# Altium integrated library NSC MiscPower.IntLib: 1417 symbols (part 38 of 39)
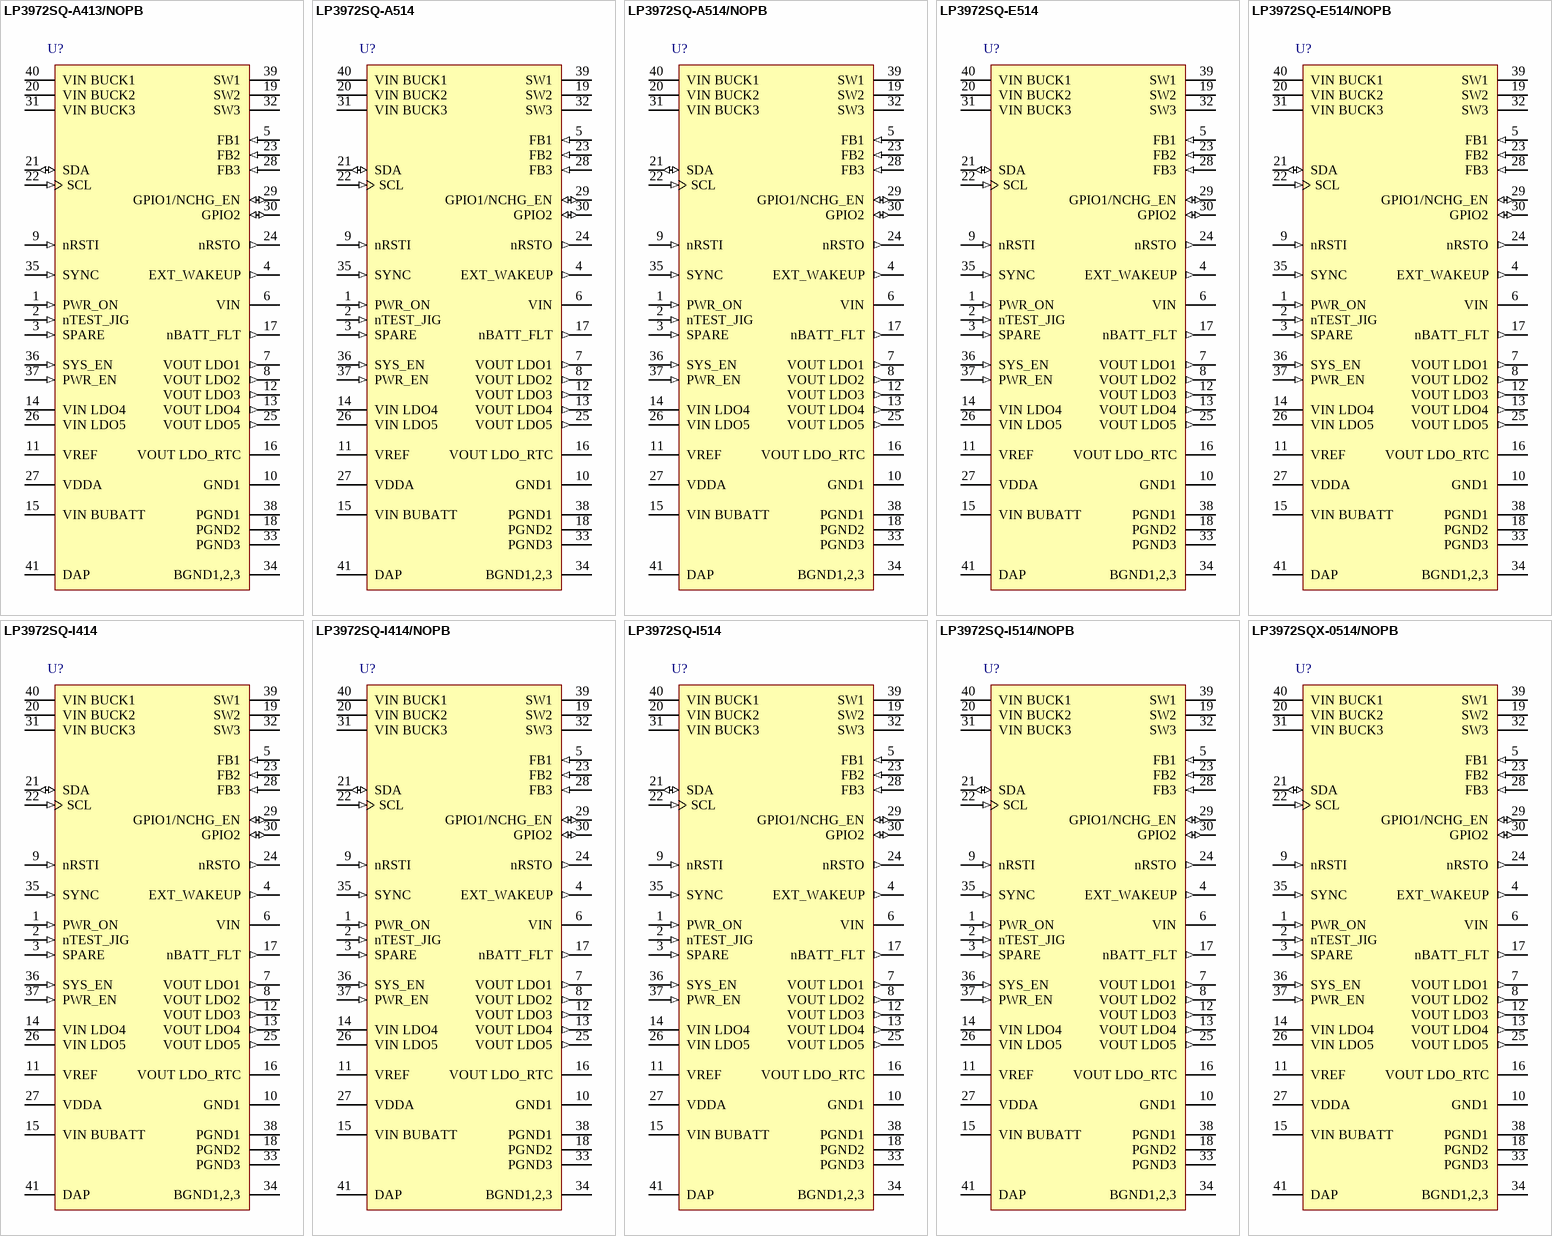
[diagram p88: symbols LP3972SQ-A413/NOPB to LP3972SQX-0514/NOPB]

## LP3972SQ-I414/NOPB
designator U?
Power Management Unit for Advanced Application Processors, 40-pin LLP, Pb-Free; PartNumber: LP3972SQ-I414/NOPB; Manufacturer: National Semiconductor; PackageTopMarking: NS*UZXYTT*72-I414; PowerWise: Y; CompType: MiscPower; Published: 1-Mar-2010; DatasheetVersion: Jun-2009; PackageVersion: revB, Jul-2004; PackageReference: SQF40A; Publisher: Altium Limited; PackageDescription: LLP, Quad, 5 x 5 x 0.8mm Body, 40 Lead, 0.4mm Pitch, 3.6 x 3.6mm Exposed Pad; Supplier 1: Digi-Key; Supplier Part Number 1: LP3972SQ-I414TR-ND; Supplier 2: Digi-Key; Supplier Part Number 2: LP3972SQ-I414CT-ND; Supplier 3: Digi-Key; Supplier Part Number 3: LP3972SQ-I414DKR-ND; RoHS: Y; PinCount: 40; ComponentLink1Description: LP3972 Datasheet; ComponentLink1URL: http://www.national.com/ds/LP/LP3972.pdf; ComponentLink2Description: LP3972 Web Page; ComponentLink2URL: http://www.national.com/pf/LP/LP3972.html; ComponentLink3Description: SQF40A Package Page; ComponentLink3URL: http://www.national.com/packaging/folders/sqf40a.html
footprint SQF40A (QFN, 40-Leads, Body 5x5 mm, Pitch 0.4mm, NSC Recommended)
pins: 1 PWR_ON (in), 2 nTEST_JIG (in), 3 SPARE (in), 4 EXT_WAKEUP (out), 5 FB1 (in), 6 VIN (power), 7 VOUT LDO1 (out), 8 VOUT LDO2 (out), 9 nRSTI (in), 10 GND1 (power), 11 VREF, 12 VOUT LDO3 (out), 13 VOUT LDO4 (out), 14 VIN LDO4 (power), 15 VIN BUBATT (power), 16 VOUT LDO_RTC (power), 17 nBATT_FLT (out), 18 PGND2 (power), 19 SW2 (power), 20 VIN BUCK2 (power), 21 SDA (io), 22 SCL (in), 23 FB2 (in), 24 nRSTO (out), 25 VOUT LDO5 (out), 26 VIN LDO5 (power), 27 VDDA (power), 28 FB3 (in), 29 GPIO1/NCHG_EN (io), 30 GPIO2 (io), 31 VIN BUCK3 (power), 32 SW3 (power), 33 PGND3 (power), 34 BGND1,2,3 (power), 35 SYNC (in), 36 SYS_EN (in), 37 PWR_EN (in), 38 PGND1 (power), 39 SW1 (power), 40 VIN BUCK1 (power), 41 DAP (power)

## LP3972SQ-I514
designator U?
Power Management Unit for Advanced Application Processor, 40-pin LLP; PartNumber: LP3972SQ-I514; Manufacturer: National Semiconductor; PackageTopMarking: NS*UZXYTT*72-I514; PowerWise: Y; CompType: MiscPower; Published: 4-Dec-2008; DatasheetVersion: Jun-2009; PackageVersion: revB, Jul-2004; PackageReference: SQF40A; Publisher: Altium Limited; PackageDescription: LLP, Quad, 5 x 5 x 0.8mm Body, 40 Lead, 0.4mm Pitch, 3.6 x 3.6mm Exposed Pad; RoHS: N; PinCount: 40; ComponentLink1Description: LP3972 Datasheet; ComponentLink1URL: http://www.national.com/ds/LP/LP3972.pdf; ComponentLink2Description: LP3972 Web Page; ComponentLink2URL: http://www.national.com/pf/LP/LP3972.html; ComponentLink3Description: SQF40A Package Page; ComponentLink3URL: http://www.national.com/packaging/folders/sqf40a.html
footprint SQF40A (QFN, 40-Leads, Body 5x5 mm, Pitch 0.4mm, NSC Recommended)
pins: 1 PWR_ON (in), 2 nTEST_JIG (in), 3 SPARE (in), 4 EXT_WAKEUP (out), 5 FB1 (in), 6 VIN (power), 7 VOUT LDO1 (out), 8 VOUT LDO2 (out), 9 nRSTI (in), 10 GND1 (power), 11 VREF, 12 VOUT LDO3 (out), 13 VOUT LDO4 (out), 14 VIN LDO4 (power), 15 VIN BUBATT (power), 16 VOUT LDO_RTC (power), 17 nBATT_FLT (out), 18 PGND2 (power), 19 SW2 (power), 20 VIN BUCK2 (power), 21 SDA (io), 22 SCL (in), 23 FB2 (in), 24 nRSTO (out), 25 VOUT LDO5 (out), 26 VIN LDO5 (power), 27 VDDA (power), 28 FB3 (in), 29 GPIO1/NCHG_EN (io), 30 GPIO2 (io), 31 VIN BUCK3 (power), 32 SW3 (power), 33 PGND3 (power), 34 BGND1,2,3 (power), 35 SYNC (in), 36 SYS_EN (in), 37 PWR_EN (in), 38 PGND1 (power), 39 SW1 (power), 40 VIN BUCK1 (power), 41 DAP (power)

## LP3972SQ-I514/NOPB
designator U?
Power Management Unit for Advanced Application Processors, 40-pin LLP, Pb-Free; PartNumber: LP3972SQ-I514/NOPB; Manufacturer: National Semiconductor; PackageTopMarking: NS*UZXYTT*72-I514; PowerWise: Y; CompType: MiscPower; Published: 1-Mar-2010; DatasheetVersion: Jun-2009; PackageVersion: revB, Jul-2004; PackageReference: SQF40A; Publisher: Altium Limited; PackageDescription: LLP, Quad, 5 x 5 x 0.8mm Body, 40 Lead, 0.4mm Pitch, 3.6 x 3.6mm Exposed Pad; Supplier 1: Digi-Key; Supplier Part Number 1: LP3972SQ-I514TR-ND; Supplier 2: Digi-Key; Supplier Part Number 2: LP3972SQ-I514CT-ND; Supplier 3: Digi-Key; Supplier Part Number 3: LP3972SQ-I514DKR-ND; RoHS: Y; PinCount: 40; ComponentLink1Description: LP3972 Datasheet; ComponentLink1URL: http://www.national.com/ds/LP/LP3972.pdf; ComponentLink2Description: LP3972 Web Page; ComponentLink2URL: http://www.national.com/pf/LP/LP3972.html; ComponentLink3Description: SQF40A Package Page; ComponentLink3URL: http://www.national.com/packaging/folders/sqf40a.html
footprint SQF40A (QFN, 40-Leads, Body 5x5 mm, Pitch 0.4mm, NSC Recommended)
pins: 1 PWR_ON (in), 2 nTEST_JIG (in), 3 SPARE (in), 4 EXT_WAKEUP (out), 5 FB1 (in), 6 VIN (power), 7 VOUT LDO1 (out), 8 VOUT LDO2 (out), 9 nRSTI (in), 10 GND1 (power), 11 VREF, 12 VOUT LDO3 (out), 13 VOUT LDO4 (out), 14 VIN LDO4 (power), 15 VIN BUBATT (power), 16 VOUT LDO_RTC (power), 17 nBATT_FLT (out), 18 PGND2 (power), 19 SW2 (power), 20 VIN BUCK2 (power), 21 SDA (io), 22 SCL (in), 23 FB2 (in), 24 nRSTO (out), 25 VOUT LDO5 (out), 26 VIN LDO5 (power), 27 VDDA (power), 28 FB3 (in), 29 GPIO1/NCHG_EN (io), 30 GPIO2 (io), 31 VIN BUCK3 (power), 32 SW3 (power), 33 PGND3 (power), 34 BGND1,2,3 (power), 35 SYNC (in), 36 SYS_EN (in), 37 PWR_EN (in), 38 PGND1 (power), 39 SW1 (power), 40 VIN BUCK1 (power), 41 DAP (power)

## LP3972SQX-0514/NOPB
designator U?
Power Management Unit for Advanced Application Processors, 40-pin LLP, Pb-Free; PartNumber: LP3972SQX-0514/NOPB; Manufacturer: National Semiconductor; PackageTopMarking: NS*UZXYTT*72-0514; PowerWise: N; CompType: MiscPower; Published: 1-Mar-2010; DatasheetVersion: Jun-2009; PackageVersion: revB, Jul-2004; PackageReference: SQF40A; Publisher: Altium Limited; PackageDescription: LLP, Quad, 5 x 5 x 0.8mm Body, 40 Lead, 0.4mm Pitch, 3.6 x 3.6mm Exposed Pad; Supplier 1: Digi-Key; Supplier Part Number 1: LP3972SQX-0514-ND; RoHS: Y; PinCount: 40; ComponentLink1Description: LP3972 Datasheet; ComponentLink1URL: http://www.national.com/ds/LP/LP3972.pdf; ComponentLink2Description: LP3972 Web Page; ComponentLink2URL: http://www.national.com/pf/LP/LP3972.html; ComponentLink3Description: SQF40A Package Page; ComponentLink3URL: http://www.national.com/packaging/folders/sqf40a.html
footprint SQF40A (QFN, 40-Leads, Body 5x5 mm, Pitch 0.4mm, NSC Recommended)
pins: 1 PWR_ON (in), 2 nTEST_JIG (in), 3 SPARE (in), 4 EXT_WAKEUP (out), 5 FB1 (in), 6 VIN (power), 7 VOUT LDO1 (out), 8 VOUT LDO2 (out), 9 nRSTI (in), 10 GND1 (power), 11 VREF, 12 VOUT LDO3 (out), 13 VOUT LDO4 (out), 14 VIN LDO4 (power), 15 VIN BUBATT (power), 16 VOUT LDO_RTC (power), 17 nBATT_FLT (out), 18 PGND2 (power), 19 SW2 (power), 20 VIN BUCK2 (power), 21 SDA (io), 22 SCL (in), 23 FB2 (in), 24 nRSTO (out), 25 VOUT LDO5 (out), 26 VIN LDO5 (power), 27 VDDA (power), 28 FB3 (in), 29 GPIO1/NCHG_EN (io), 30 GPIO2 (io), 31 VIN BUCK3 (power), 32 SW3 (power), 33 PGND3 (power), 34 BGND1,2,3 (power), 35 SYNC (in), 36 SYS_EN (in), 37 PWR_EN (in), 38 PGND1 (power), 39 SW1 (power), 40 VIN BUCK1 (power), 41 DAP (power)

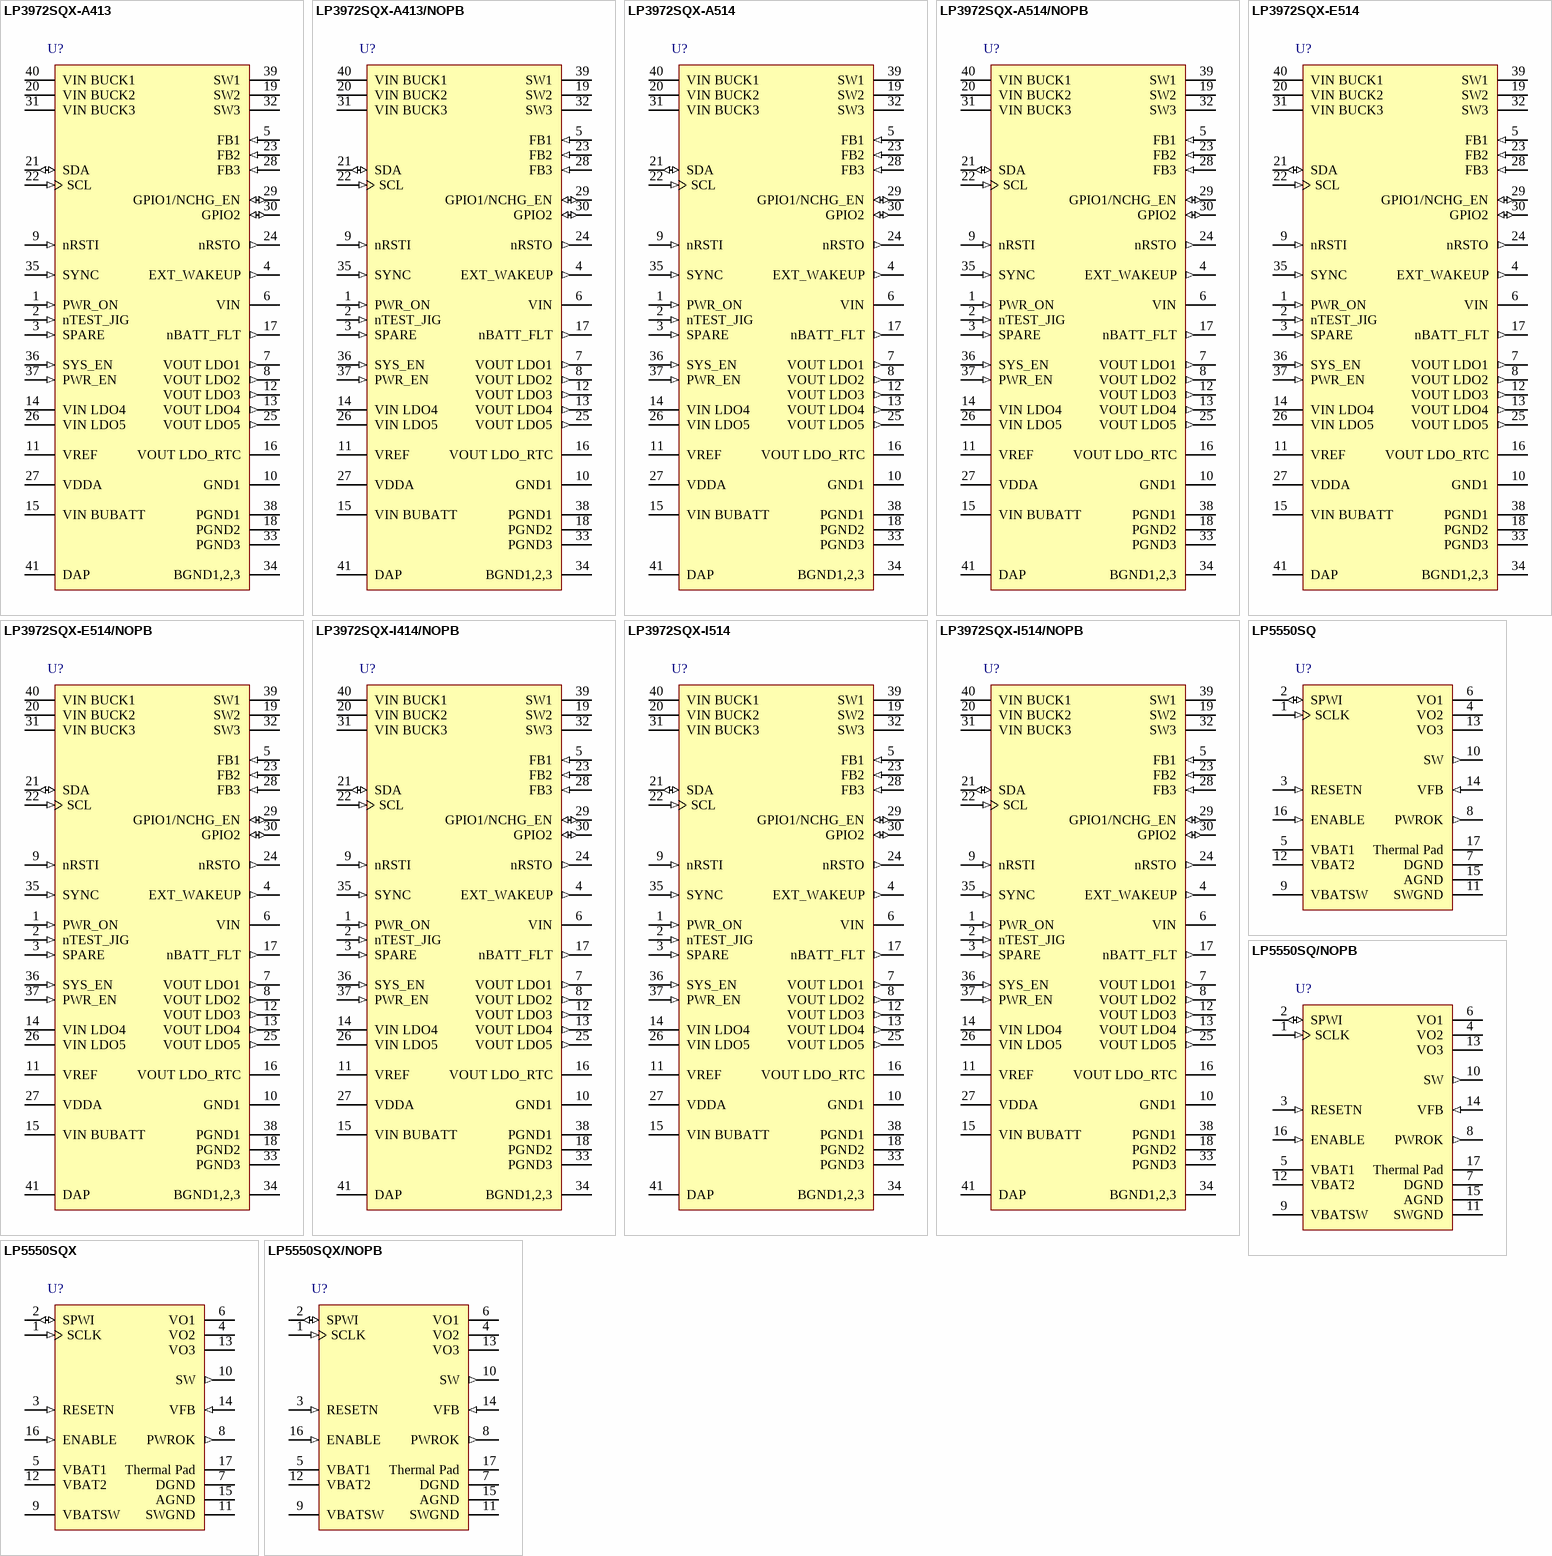
[diagram p48: symbols LP3972SQX-A413 to LP5550SQX/NOPB]

## LP3972SQX-A413
designator U?
Power Management Unit for Advanced Application Processors, 40-pin LLP; PartNumber: LP3972SQX-A413; Manufacturer: National Semiconductor; PackageTopMarking: NS*UZXYTT*72-A413; PowerWise: Y; CompType: MiscPower; Published: 1-Mar-2010; DatasheetVersion: Jun-2009; PackageVersion: revB, Jul-2004; PackageReference: SQF40A; Publisher: Altium Limited; PackageDescription: LLP, Quad, 5 x 5 x 0.8mm Body, 40 Lead, 0.4mm Pitch, 3.6 x 3.6mm Exposed Pad; RoHS: N; PinCount: 40; ComponentLink1Description: LP3972 Datasheet; ComponentLink1URL: http://www.national.com/ds/LP/LP3972.pdf; ComponentLink2Description: LP3972 Web Page; ComponentLink2URL: http://www.national.com/pf/LP/LP3972.html; ComponentLink3Description: SQF40A Package Page; ComponentLink3URL: http://www.national.com/packaging/folders/sqf40a.html
footprint SQF40A (QFN, 40-Leads, Body 5x5 mm, Pitch 0.4mm, NSC Recommended)
pins: 1 PWR_ON (in), 2 nTEST_JIG (in), 3 SPARE (in), 4 EXT_WAKEUP (out), 5 FB1 (in), 6 VIN (power), 7 VOUT LDO1 (out), 8 VOUT LDO2 (out), 9 nRSTI (in), 10 GND1 (power), 11 VREF, 12 VOUT LDO3 (out), 13 VOUT LDO4 (out), 14 VIN LDO4 (power), 15 VIN BUBATT (power), 16 VOUT LDO_RTC (power), 17 nBATT_FLT (out), 18 PGND2 (power), 19 SW2 (power), 20 VIN BUCK2 (power), 21 SDA (io), 22 SCL (in), 23 FB2 (in), 24 nRSTO (out), 25 VOUT LDO5 (out), 26 VIN LDO5 (power), 27 VDDA (power), 28 FB3 (in), 29 GPIO1/NCHG_EN (io), 30 GPIO2 (io), 31 VIN BUCK3 (power), 32 SW3 (power), 33 PGND3 (power), 34 BGND1,2,3 (power), 35 SYNC (in), 36 SYS_EN (in), 37 PWR_EN (in), 38 PGND1 (power), 39 SW1 (power), 40 VIN BUCK1 (power), 41 DAP (power)

## LP3972SQX-A413/NOPB
designator U?
Power Management Unit for Advanced Application Processors, 40-pin LLP, Pb-Free; PartNumber: LP3972SQX-A413/NOPB; Manufacturer: National Semiconductor; PackageTopMarking: NS*UZXYTT*72-A413; PowerWise: Y; CompType: MiscPower; Published: 1-Mar-2010; DatasheetVersion: Jun-2009; PackageVersion: revB, Jul-2004; PackageReference: SQF40A; Publisher: Altium Limited; PackageDescription: LLP, Quad, 5 x 5 x 0.8mm Body, 40 Lead, 0.4mm Pitch, 3.6 x 3.6mm Exposed Pad; Supplier 1: Digi-Key; Supplier Part Number 1: LP3972SQX-A413-ND; RoHS: Y; PinCount: 40; ComponentLink1Description: LP3972 Datasheet; ComponentLink1URL: http://www.national.com/ds/LP/LP3972.pdf; ComponentLink2Description: LP3972 Web Page; ComponentLink2URL: http://www.national.com/pf/LP/LP3972.html; ComponentLink3Description: SQF40A Package Page; ComponentLink3URL: http://www.national.com/packaging/folders/sqf40a.html
footprint SQF40A (QFN, 40-Leads, Body 5x5 mm, Pitch 0.4mm, NSC Recommended)
pins: 1 PWR_ON (in), 2 nTEST_JIG (in), 3 SPARE (in), 4 EXT_WAKEUP (out), 5 FB1 (in), 6 VIN (power), 7 VOUT LDO1 (out), 8 VOUT LDO2 (out), 9 nRSTI (in), 10 GND1 (power), 11 VREF, 12 VOUT LDO3 (out), 13 VOUT LDO4 (out), 14 VIN LDO4 (power), 15 VIN BUBATT (power), 16 VOUT LDO_RTC (power), 17 nBATT_FLT (out), 18 PGND2 (power), 19 SW2 (power), 20 VIN BUCK2 (power), 21 SDA (io), 22 SCL (in), 23 FB2 (in), 24 nRSTO (out), 25 VOUT LDO5 (out), 26 VIN LDO5 (power), 27 VDDA (power), 28 FB3 (in), 29 GPIO1/NCHG_EN (io), 30 GPIO2 (io), 31 VIN BUCK3 (power), 32 SW3 (power), 33 PGND3 (power), 34 BGND1,2,3 (power), 35 SYNC (in), 36 SYS_EN (in), 37 PWR_EN (in), 38 PGND1 (power), 39 SW1 (power), 40 VIN BUCK1 (power), 41 DAP (power)

## LP3972SQX-A514
designator U?
Power Management Unit for Advanced Application Processors, 40-pin LLP; PartNumber: LP3972SQX-A514; Manufacturer: National Semiconductor; PackageTopMarking: NS*UZXYTT*72-A514; PowerWise: Y; CompType: MiscPower; Published: 1-Mar-2010; DatasheetVersion: Jun-2009; PackageVersion: revB, Jul-2004; PackageReference: SQF40A; Publisher: Altium Limited; PackageDescription: LLP, Quad, 5 x 5 x 0.8mm Body, 40 Lead, 0.4mm Pitch, 3.6 x 3.6mm Exposed Pad; RoHS: N; PinCount: 40; ComponentLink1Description: LP3972 Datasheet; ComponentLink1URL: http://www.national.com/ds/LP/LP3972.pdf; ComponentLink2Description: LP3972 Web Page; ComponentLink2URL: http://www.national.com/pf/LP/LP3972.html; ComponentLink3Description: SQF40A Package Page; ComponentLink3URL: http://www.national.com/packaging/folders/sqf40a.html
footprint SQF40A (QFN, 40-Leads, Body 5x5 mm, Pitch 0.4mm, NSC Recommended)
pins: 1 PWR_ON (in), 2 nTEST_JIG (in), 3 SPARE (in), 4 EXT_WAKEUP (out), 5 FB1 (in), 6 VIN (power), 7 VOUT LDO1 (out), 8 VOUT LDO2 (out), 9 nRSTI (in), 10 GND1 (power), 11 VREF, 12 VOUT LDO3 (out), 13 VOUT LDO4 (out), 14 VIN LDO4 (power), 15 VIN BUBATT (power), 16 VOUT LDO_RTC (power), 17 nBATT_FLT (out), 18 PGND2 (power), 19 SW2 (power), 20 VIN BUCK2 (power), 21 SDA (io), 22 SCL (in), 23 FB2 (in), 24 nRSTO (out), 25 VOUT LDO5 (out), 26 VIN LDO5 (power), 27 VDDA (power), 28 FB3 (in), 29 GPIO1/NCHG_EN (io), 30 GPIO2 (io), 31 VIN BUCK3 (power), 32 SW3 (power), 33 PGND3 (power), 34 BGND1,2,3 (power), 35 SYNC (in), 36 SYS_EN (in), 37 PWR_EN (in), 38 PGND1 (power), 39 SW1 (power), 40 VIN BUCK1 (power), 41 DAP (power)

## LP3972SQX-A514/NOPB
designator U?
Power Management Unit for Advanced Application Processors, 40-pin LLP, Pb-Free; PartNumber: LP3972SQX-A514/NOPB; Manufacturer: National Semiconductor; PackageTopMarking: NS*UZXYTT*72-A514; PowerWise: Y; CompType: MiscPower; Published: 1-Mar-2010; DatasheetVersion: Jun-2009; PackageVersion: revB, Jul-2004; PackageReference: SQF40A; Publisher: Altium Limited; PackageDescription: LLP, Quad, 5 x 5 x 0.8mm Body, 40 Lead, 0.4mm Pitch, 3.6 x 3.6mm Exposed Pad; Supplier 1: Digi-Key; Supplier Part Number 1: LP3972SQX-A514-ND; RoHS: Y; PinCount: 40; ComponentLink1Description: LP3972 Datasheet; ComponentLink1URL: http://www.national.com/ds/LP/LP3972.pdf; ComponentLink2Description: LP3972 Web Page; ComponentLink2URL: http://www.national.com/pf/LP/LP3972.html; ComponentLink3Description: SQF40A Package Page; ComponentLink3URL: http://www.national.com/packaging/folders/sqf40a.html
footprint SQF40A (QFN, 40-Leads, Body 5x5 mm, Pitch 0.4mm, NSC Recommended)
pins: 1 PWR_ON (in), 2 nTEST_JIG (in), 3 SPARE (in), 4 EXT_WAKEUP (out), 5 FB1 (in), 6 VIN (power), 7 VOUT LDO1 (out), 8 VOUT LDO2 (out), 9 nRSTI (in), 10 GND1 (power), 11 VREF, 12 VOUT LDO3 (out), 13 VOUT LDO4 (out), 14 VIN LDO4 (power), 15 VIN BUBATT (power), 16 VOUT LDO_RTC (power), 17 nBATT_FLT (out), 18 PGND2 (power), 19 SW2 (power), 20 VIN BUCK2 (power), 21 SDA (io), 22 SCL (in), 23 FB2 (in), 24 nRSTO (out), 25 VOUT LDO5 (out), 26 VIN LDO5 (power), 27 VDDA (power), 28 FB3 (in), 29 GPIO1/NCHG_EN (io), 30 GPIO2 (io), 31 VIN BUCK3 (power), 32 SW3 (power), 33 PGND3 (power), 34 BGND1,2,3 (power), 35 SYNC (in), 36 SYS_EN (in), 37 PWR_EN (in), 38 PGND1 (power), 39 SW1 (power), 40 VIN BUCK1 (power), 41 DAP (power)

## LP3972SQX-E514
designator U?
Power Management Unit for Advanced Application Processors, 40-pin LLP; PartNumber: LP3972SQX-E514; Manufacturer: National Semiconductor; PackageTopMarking: NS*UZXYTT*72-E514; PowerWise: Y; CompType: MiscPower; Published: 1-Mar-2010; DatasheetVersion: Jun-2009; PackageVersion: revB, Jul-2004; PackageReference: SQF40A; Publisher: Altium Limited; PackageDescription: LLP, Quad, 5 x 5 x 0.8mm Body, 40 Lead, 0.4mm Pitch, 3.6 x 3.6mm Exposed Pad; RoHS: N; PinCount: 40; ComponentLink1Description: LP3972 Datasheet; ComponentLink1URL: http://www.national.com/ds/LP/LP3972.pdf; ComponentLink2Description: LP3972 Web Page; ComponentLink2URL: http://www.national.com/pf/LP/LP3972.html; ComponentLink3Description: SQF40A Package Page; ComponentLink3URL: http://www.national.com/packaging/folders/sqf40a.html
footprint SQF40A (QFN, 40-Leads, Body 5x5 mm, Pitch 0.4mm, NSC Recommended)
pins: 1 PWR_ON (in), 2 nTEST_JIG (in), 3 SPARE (in), 4 EXT_WAKEUP (out), 5 FB1 (in), 6 VIN (power), 7 VOUT LDO1 (out), 8 VOUT LDO2 (out), 9 nRSTI (in), 10 GND1 (power), 11 VREF, 12 VOUT LDO3 (out), 13 VOUT LDO4 (out), 14 VIN LDO4 (power), 15 VIN BUBATT (power), 16 VOUT LDO_RTC (power), 17 nBATT_FLT (out), 18 PGND2 (power), 19 SW2 (power), 20 VIN BUCK2 (power), 21 SDA (io), 22 SCL (in), 23 FB2 (in), 24 nRSTO (out), 25 VOUT LDO5 (out), 26 VIN LDO5 (power), 27 VDDA (power), 28 FB3 (in), 29 GPIO1/NCHG_EN (io), 30 GPIO2 (io), 31 VIN BUCK3 (power), 32 SW3 (power), 33 PGND3 (power), 34 BGND1,2,3 (power), 35 SYNC (in), 36 SYS_EN (in), 37 PWR_EN (in), 38 PGND1 (power), 39 SW1 (power), 40 VIN BUCK1 (power), 41 DAP (power)

## LP3972SQX-E514/NOPB
designator U?
Power Management Unit for Advanced Application Processors, 40-pin LLP, Pb-Free; PartNumber: LP3972SQX-E514/NOPB; Manufacturer: National Semiconductor; PackageTopMarking: NS*UZXYTT*72-E514; PowerWise: Y; CompType: MiscPower; Published: 1-Mar-2010; DatasheetVersion: Jun-2009; PackageVersion: revB, Jul-2004; PackageReference: SQF40A; Publisher: Altium Limited; PackageDescription: LLP, Quad, 5 x 5 x 0.8mm Body, 40 Lead, 0.4mm Pitch, 3.6 x 3.6mm Exposed Pad; Supplier 1: Digi-Key; Supplier Part Number 1: LP3972SQX-E514-ND; RoHS: Y; PinCount: 40; ComponentLink1Description: LP3972 Datasheet; ComponentLink1URL: http://www.national.com/ds/LP/LP3972.pdf; ComponentLink2Description: LP3972 Web Page; ComponentLink2URL: http://www.national.com/pf/LP/LP3972.html; ComponentLink3Description: SQF40A Package Page; ComponentLink3URL: http://www.national.com/packaging/folders/sqf40a.html
footprint SQF40A (QFN, 40-Leads, Body 5x5 mm, Pitch 0.4mm, NSC Recommended)
pins: 1 PWR_ON (in), 2 nTEST_JIG (in), 3 SPARE (in), 4 EXT_WAKEUP (out), 5 FB1 (in), 6 VIN (power), 7 VOUT LDO1 (out), 8 VOUT LDO2 (out), 9 nRSTI (in), 10 GND1 (power), 11 VREF, 12 VOUT LDO3 (out), 13 VOUT LDO4 (out), 14 VIN LDO4 (power), 15 VIN BUBATT (power), 16 VOUT LDO_RTC (power), 17 nBATT_FLT (out), 18 PGND2 (power), 19 SW2 (power), 20 VIN BUCK2 (power), 21 SDA (io), 22 SCL (in), 23 FB2 (in), 24 nRSTO (out), 25 VOUT LDO5 (out), 26 VIN LDO5 (power), 27 VDDA (power), 28 FB3 (in), 29 GPIO1/NCHG_EN (io), 30 GPIO2 (io), 31 VIN BUCK3 (power), 32 SW3 (power), 33 PGND3 (power), 34 BGND1,2,3 (power), 35 SYNC (in), 36 SYS_EN (in), 37 PWR_EN (in), 38 PGND1 (power), 39 SW1 (power), 40 VIN BUCK1 (power), 41 DAP (power)

## LP3972SQX-I414/NOPB
designator U?
Power Management Unit for Advanced Application Processors, 40-pin LLP, Pb-Free; PartNumber: LP3972SQX-I414/NOPB; Manufacturer: National Semiconductor; PackageTopMarking: NS*UZXYTT*72-I414; PowerWise: Y; CompType: MiscPower; Published: 1-Mar-2010; DatasheetVersion: Jun-2009; PackageVersion: revB, Jul-2004; PackageReference: SQF40A; Publisher: Altium Limited; PackageDescription: LLP, Quad, 5 x 5 x 0.8mm Body, 40 Lead, 0.4mm Pitch, 3.6 x 3.6mm Exposed Pad; Supplier 1: Digi-Key; Supplier Part Number 1: LP3972SQX-I414-ND; RoHS: Y; PinCount: 40; ComponentLink1Description: LP3972 Datasheet; ComponentLink1URL: http://www.national.com/ds/LP/LP3972.pdf; ComponentLink2Description: LP3972 Web Page; ComponentLink2URL: http://www.national.com/pf/LP/LP3972.html; ComponentLink3Description: SQF40A Package Page; ComponentLink3URL: http://www.national.com/packaging/folders/sqf40a.html
footprint SQF40A (QFN, 40-Leads, Body 5x5 mm, Pitch 0.4mm, NSC Recommended)
pins: 1 PWR_ON (in), 2 nTEST_JIG (in), 3 SPARE (in), 4 EXT_WAKEUP (out), 5 FB1 (in), 6 VIN (power), 7 VOUT LDO1 (out), 8 VOUT LDO2 (out), 9 nRSTI (in), 10 GND1 (power), 11 VREF, 12 VOUT LDO3 (out), 13 VOUT LDO4 (out), 14 VIN LDO4 (power), 15 VIN BUBATT (power), 16 VOUT LDO_RTC (power), 17 nBATT_FLT (out), 18 PGND2 (power), 19 SW2 (power), 20 VIN BUCK2 (power), 21 SDA (io), 22 SCL (in), 23 FB2 (in), 24 nRSTO (out), 25 VOUT LDO5 (out), 26 VIN LDO5 (power), 27 VDDA (power), 28 FB3 (in), 29 GPIO1/NCHG_EN (io), 30 GPIO2 (io), 31 VIN BUCK3 (power), 32 SW3 (power), 33 PGND3 (power), 34 BGND1,2,3 (power), 35 SYNC (in), 36 SYS_EN (in), 37 PWR_EN (in), 38 PGND1 (power), 39 SW1 (power), 40 VIN BUCK1 (power), 41 DAP (power)

## LP3972SQX-I514
designator U?
Power Management Unit for Advanced Application Processors, 40-pin LLP; PartNumber: LP3972SQX-I514; Manufacturer: National Semiconductor; PackageTopMarking: NS*UZXYTT*72-I514; PowerWise: Y; CompType: MiscPower; Published: 1-Mar-2010; DatasheetVersion: Jun-2009; PackageVersion: revB, Jul-2004; PackageReference: SQF40A; Publisher: Altium Limited; PackageDescription: LLP, Quad, 5 x 5 x 0.8mm Body, 40 Lead, 0.4mm Pitch, 3.6 x 3.6mm Exposed Pad; RoHS: N; PinCount: 40; ComponentLink1Description: LP3972 Datasheet; ComponentLink1URL: http://www.national.com/ds/LP/LP3972.pdf; ComponentLink2Description: LP3972 Web Page; ComponentLink2URL: http://www.national.com/pf/LP/LP3972.html; ComponentLink3Description: SQF40A Package Page; ComponentLink3URL: http://www.national.com/packaging/folders/sqf40a.html
footprint SQF40A (QFN, 40-Leads, Body 5x5 mm, Pitch 0.4mm, NSC Recommended)
pins: 1 PWR_ON (in), 2 nTEST_JIG (in), 3 SPARE (in), 4 EXT_WAKEUP (out), 5 FB1 (in), 6 VIN (power), 7 VOUT LDO1 (out), 8 VOUT LDO2 (out), 9 nRSTI (in), 10 GND1 (power), 11 VREF, 12 VOUT LDO3 (out), 13 VOUT LDO4 (out), 14 VIN LDO4 (power), 15 VIN BUBATT (power), 16 VOUT LDO_RTC (power), 17 nBATT_FLT (out), 18 PGND2 (power), 19 SW2 (power), 20 VIN BUCK2 (power), 21 SDA (io), 22 SCL (in), 23 FB2 (in), 24 nRSTO (out), 25 VOUT LDO5 (out), 26 VIN LDO5 (power), 27 VDDA (power), 28 FB3 (in), 29 GPIO1/NCHG_EN (io), 30 GPIO2 (io), 31 VIN BUCK3 (power), 32 SW3 (power), 33 PGND3 (power), 34 BGND1,2,3 (power), 35 SYNC (in), 36 SYS_EN (in), 37 PWR_EN (in), 38 PGND1 (power), 39 SW1 (power), 40 VIN BUCK1 (power), 41 DAP (power)

## LP3972SQX-I514/NOPB
designator U?
Power Management Unit for Advanced Application Processors, 40-pin LLP, Pb-Free; PartNumber: LP3972SQX-I514/NOPB; Manufacturer: National Semiconductor; PackageTopMarking: NS*UZXYTT*72-I514; PowerWise: Y; CompType: MiscPower; Published: 1-Mar-2010; DatasheetVersion: Jun-2009; PackageVersion: revB, Jul-2004; PackageReference: SQF40A; Publisher: Altium Limited; PackageDescription: LLP, Quad, 5 x 5 x 0.8mm Body, 40 Lead, 0.4mm Pitch, 3.6 x 3.6mm Exposed Pad; Supplier 1: Digi-Key; Supplier Part Number 1: LP3972SQX-I514-ND; RoHS: Y; PinCount: 40; ComponentLink1Description: LP3972 Datasheet; ComponentLink1URL: http://www.national.com/ds/LP/LP3972.pdf; ComponentLink2Description: LP3972 Web Page; ComponentLink2URL: http://www.national.com/pf/LP/LP3972.html; ComponentLink3Description: SQF40A Package Page; ComponentLink3URL: http://www.national.com/packaging/folders/sqf40a.html
footprint SQF40A (QFN, 40-Leads, Body 5x5 mm, Pitch 0.4mm, NSC Recommended)
pins: 1 PWR_ON (in), 2 nTEST_JIG (in), 3 SPARE (in), 4 EXT_WAKEUP (out), 5 FB1 (in), 6 VIN (power), 7 VOUT LDO1 (out), 8 VOUT LDO2 (out), 9 nRSTI (in), 10 GND1 (power), 11 VREF, 12 VOUT LDO3 (out), 13 VOUT LDO4 (out), 14 VIN LDO4 (power), 15 VIN BUBATT (power), 16 VOUT LDO_RTC (power), 17 nBATT_FLT (out), 18 PGND2 (power), 19 SW2 (power), 20 VIN BUCK2 (power), 21 SDA (io), 22 SCL (in), 23 FB2 (in), 24 nRSTO (out), 25 VOUT LDO5 (out), 26 VIN LDO5 (power), 27 VDDA (power), 28 FB3 (in), 29 GPIO1/NCHG_EN (io), 30 GPIO2 (io), 31 VIN BUCK3 (power), 32 SW3 (power), 33 PGND3 (power), 34 BGND1,2,3 (power), 35 SYNC (in), 36 SYS_EN (in), 37 PWR_EN (in), 38 PGND1 (power), 39 SW1 (power), 40 VIN BUCK1 (power), 41 DAP (power)

## LP5550SQ
designator U?
PowerWise Technology Compliant Energy Management Unit, 16-pin LLP; PartNumber: LP5550SQ; Manufacturer: National Semiconductor; PackageTopMarking: NS*UZXYTT*L5550SQ; PowerWise: Y; CompType: MiscPower; Published: 4-Dec-2008; DatasheetVersion: Jan-2006; PackageVersion: revA, Oct-2003; PackageReference: SQA16A; Publisher: Altium Limited; PackageDescription: LLP, Plastic, Quad, 4 x 4 x 0.8mm Body, 16 Lead, 0.5mm Pitch, No Pullback; Supplier 1: Farnell; Supplier Part Number 1: 1312854; RoHS: N; PinCount: 16; ComponentLink1Description: LP5550 Datasheet; ComponentLink1URL: http://www.national.com/ds/LP/LP5550.pdf; ComponentLink2Description: LP5550 Web Page; ComponentLink2URL: http://www.national.com/pf/LP/LP5550.html; ComponentLink3Description: SQA16A Package Page; ComponentLink3URL: http://www.national.com/packaging/folders/sqa16a.html
footprint SQA16A (QFN, 16-Leads, Body 4x4mm, Pitch 0.5mm, NSC Recommended)
pins: 1 SCLK (in), 2 SPWI (io), 3 RESETN (in), 4 VO2 (power), 5 VBAT1 (power), 6 VO1 (power), 7 DGND (power), 8 PWROK (out), 9 VBATSW (power), 10 SW (out), 11 SWGND (power), 12 VBAT2 (power), 13 VO3 (power), 14 VFB (in), 15 AGND (power), 16 ENABLE (in), 17 Thermal Pad (power)

## LP5550SQ/NOPB
designator U?
PowerWise Technology Compliant Energy Management Unit, 16-pin LLP, Pb-Free; PartNumber: LP5550SQ/NOPB; Manufacturer: National Semiconductor; PackageTopMarking: NS*UZXYTT*L5550SQ; PowerWise: Y; CompType: MiscPower; Published: 1-Mar-2010; DatasheetVersion: Jan-2006; PackageVersion: revA, Oct-2003; PackageReference: SQA16A; Publisher: Altium Limited; PackageDescription: LLP, Plastic, Quad, 4 x 4 x 0.8mm Body, 16 Lead, 0.5mm Pitch, No Pullback; Supplier 1: Digi-Key; Supplier Part Number 1: LP5550SQTR-ND; Supplier 2: Digi-Key; Supplier Part Number 2: LP5550SQCT-ND; Supplier 3: Digi-Key; Supplier Part Number 3: LP5550SQDKR-ND; RoHS: Y; PinCount: 16; ComponentLink1Description: LP5550 Datasheet; ComponentLink1URL: http://www.national.com/ds/LP/LP5550.pdf; ComponentLink2Description: LP5550 Web Page; ComponentLink2URL: http://www.national.com/pf/LP/LP5550.html; ComponentLink3Description: SQA16A Package Page; ComponentLink3URL: http://www.national.com/packaging/folders/sqa16a.html
footprint SQA16A (QFN, 16-Leads, Body 4x4mm, Pitch 0.5mm, NSC Recommended)
pins: 1 SCLK (in), 2 SPWI (io), 3 RESETN (in), 4 VO2 (power), 5 VBAT1 (power), 6 VO1 (power), 7 DGND (power), 8 PWROK (out), 9 VBATSW (power), 10 SW (out), 11 SWGND (power), 12 VBAT2 (power), 13 VO3 (power), 14 VFB (in), 15 AGND (power), 16 ENABLE (in), 17 Thermal Pad (power)

## LP5550SQX
designator U?
PowerWise Technology Compliant Energy Management Unit, 16-pin LLP; PartNumber: LP5550SQX; Manufacturer: National Semiconductor; PackageTopMarking: NS*UZXYTT*L5550SQ; PowerWise: Y; CompType: MiscPower; Published: 1-Mar-2010; DatasheetVersion: Jan-2006; PackageVersion: revA, Oct-2003; PackageReference: SQA16A; Publisher: Altium Limited; PackageDescription: LLP, Plastic, Quad, 4 x 4 x 0.8mm Body, 16 Lead, 0.5mm Pitch, No Pullback; RoHS: N; PinCount: 16; ComponentLink1Description: LP5550 Datasheet; ComponentLink1URL: http://www.national.com/ds/LP/LP5550.pdf; ComponentLink2Description: LP5550 Web Page; ComponentLink2URL: http://www.national.com/pf/LP/LP5550.html; ComponentLink3Description: SQA16A Package Page; ComponentLink3URL: http://www.national.com/packaging/folders/sqa16a.html
footprint SQA16A (QFN, 16-Leads, Body 4x4mm, Pitch 0.5mm, NSC Recommended)
pins: 1 SCLK (in), 2 SPWI (io), 3 RESETN (in), 4 VO2 (power), 5 VBAT1 (power), 6 VO1 (power), 7 DGND (power), 8 PWROK (out), 9 VBATSW (power), 10 SW (out), 11 SWGND (power), 12 VBAT2 (power), 13 VO3 (power), 14 VFB (in), 15 AGND (power), 16 ENABLE (in), 17 Thermal Pad (power)

## LP5550SQX/NOPB
designator U?
PowerWise Technology Compliant Energy Management Unit, 16-pin LLP, Pb-Free; PartNumber: LP5550SQX/NOPB; Manufacturer: National Semiconductor; PackageTopMarking: NS*UZXYTT*L5550SQ; PowerWise: Y; CompType: MiscPower; Published: 1-Mar-2010; DatasheetVersion: Jan-2006; PackageVersion: revA, Oct-2003; PackageReference: SQA16A; Publisher: Altium Limited; PackageDescription: LLP, Plastic, Quad, 4 x 4 x 0.8mm Body, 16 Lead, 0.5mm Pitch, No Pullback; Supplier 1: Digi-Key; Supplier Part Number 1: LP5550SQX-ND; RoHS: Y; PinCount: 16; ComponentLink1Description: LP5550 Datasheet; ComponentLink1URL: http://www.national.com/ds/LP/LP5550.pdf; ComponentLink2Description: LP5550 Web Page; ComponentLink2URL: http://www.national.com/pf/LP/LP5550.html; ComponentLink3Description: SQA16A Package Page; ComponentLink3URL: http://www.national.com/packaging/folders/sqa16a.html
footprint SQA16A (QFN, 16-Leads, Body 4x4mm, Pitch 0.5mm, NSC Recommended)
pins: 1 SCLK (in), 2 SPWI (io), 3 RESETN (in), 4 VO2 (power), 5 VBAT1 (power), 6 VO1 (power), 7 DGND (power), 8 PWROK (out), 9 VBATSW (power), 10 SW (out), 11 SWGND (power), 12 VBAT2 (power), 13 VO3 (power), 14 VFB (in), 15 AGND (power), 16 ENABLE (in), 17 Thermal Pad (power)

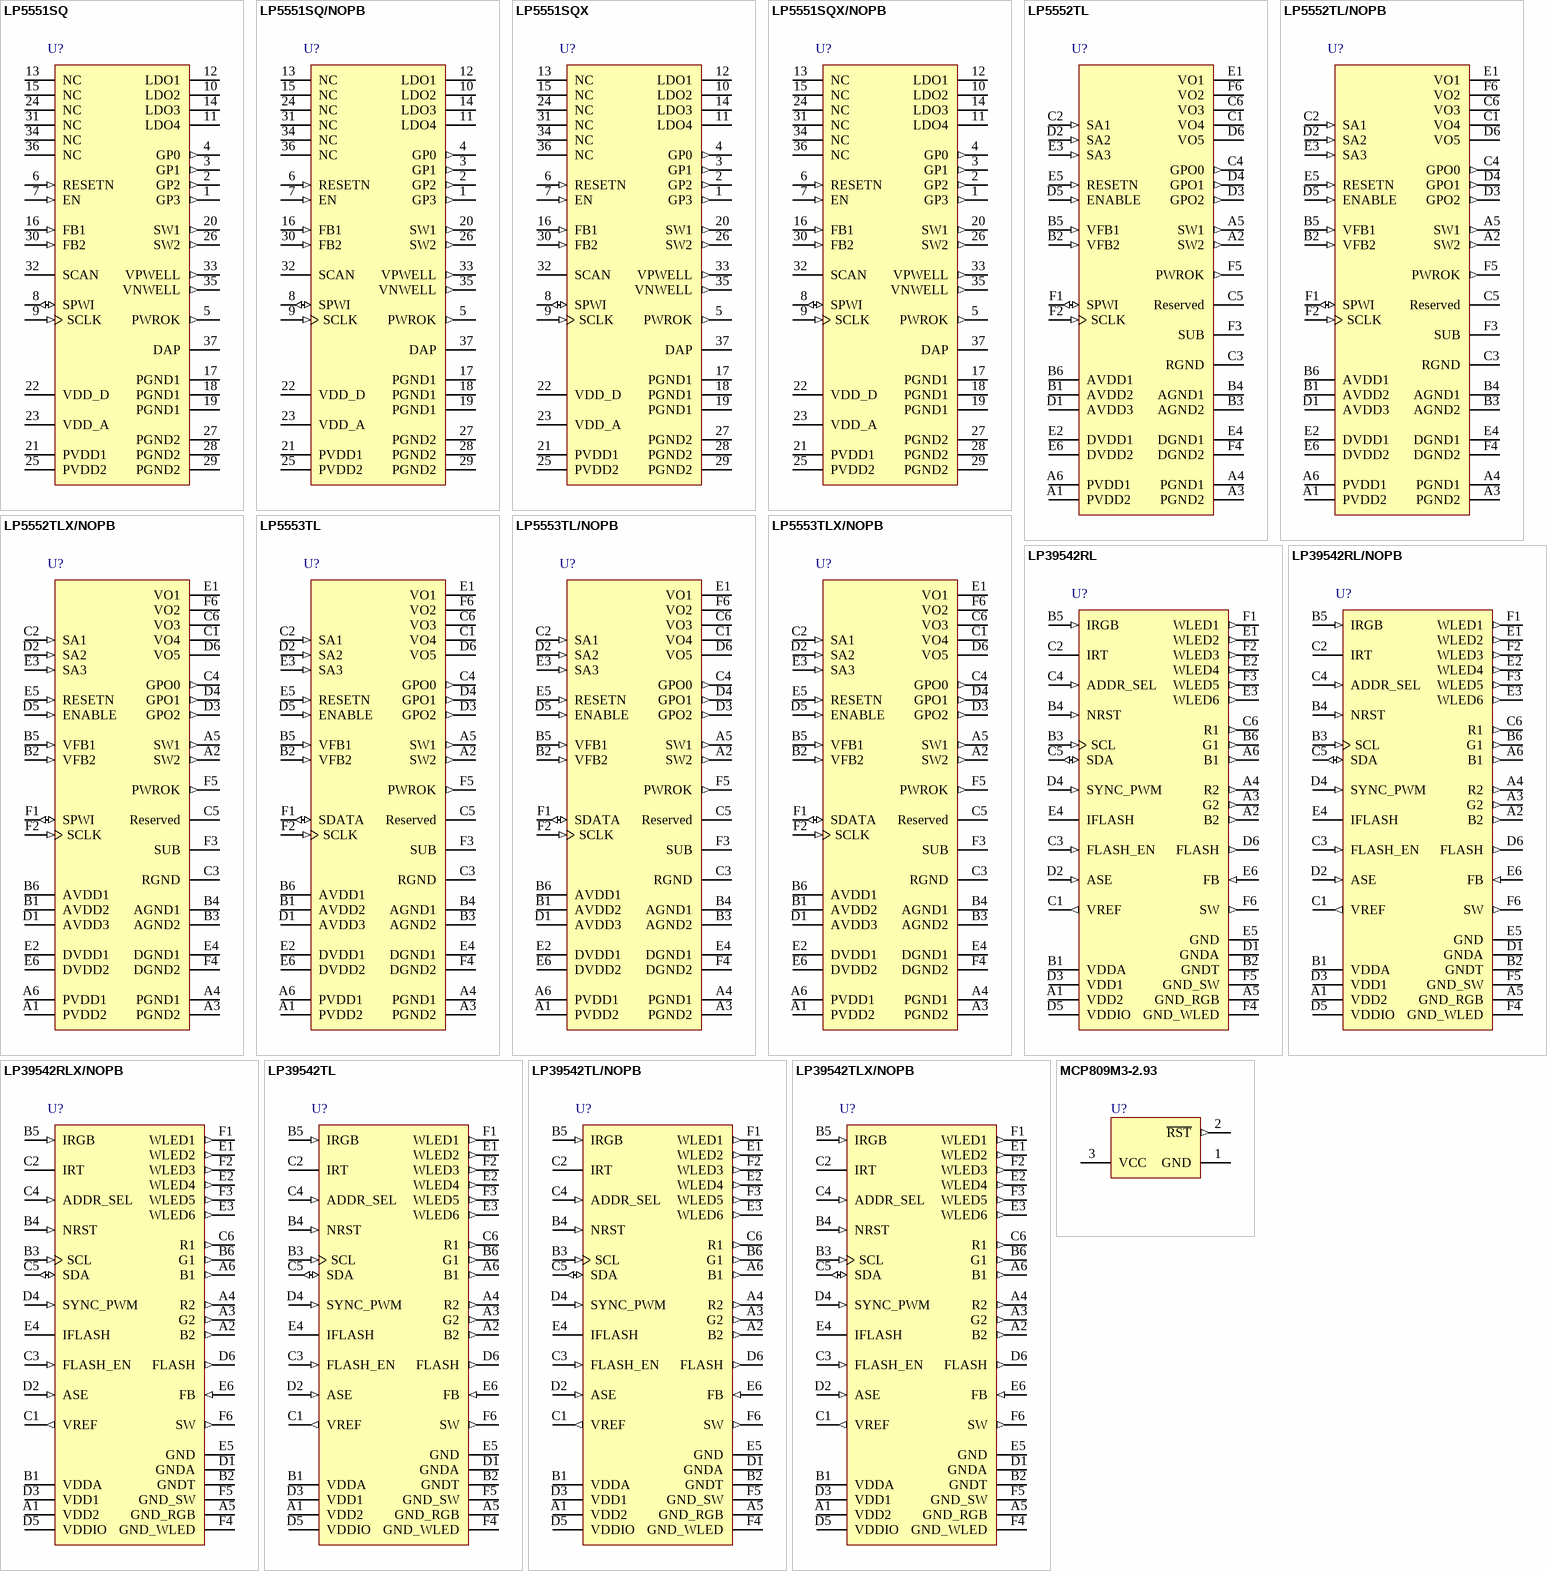
[diagram p49: symbols LP5551SQ to MCP809M3-2.93]

## LP5551SQ
designator U?
PowerWise Technology Compliant Energy Management Unit, 36-pin LLP; PartNumber: LP5551SQ; Manufacturer: National Semiconductor; PackageTopMarking: NS*UZXYTTE#*LP5551SQ; PowerWise: Y; CompType: MiscPower; Published: 4-Dec-2008; DatasheetVersion: Dec-2006; PackageVersion: revA, Jun-2003; PackageReference: SQA36A; Publisher: Altium Limited; PackageDescription: LLP, Plastic, Quad, 6 x 6 x 0.8mm Body, 36 Lead, 0.5mm Pitch, No Pullback; RoHS: N; PinCount: 36; ComponentLink1Description: LP5551 Datasheet; ComponentLink1URL: http://www.national.com/ds/LP/LP5551.pdf; ComponentLink2Description: LP5551 Web Page; ComponentLink2URL: http://www.national.com/pf/LP/LP5551.html; ComponentLink3Description: SQA36A Package Page; ComponentLink3URL: http://www.national.com/packaging/folders/sqa36a.html
footprint SQA36A (QFN, 36-Leads, Body 6x6mm, Pitch 0.5mm, NSC Recommended)
pins: 1 GP3 (out), 2 GP2 (out), 3 GP1 (out), 4 GP0 (out), 5 PWROK (out), 6 RESETN (in), 7 EN (in), 8 SPWI (io), 9 SCLK (in), 10 LDO2 (power), 11 LDO4 (power), 12 LDO1 (power), 13 NC, 14 LDO3 (power), 15 NC, 16 FB1 (in), 17 PGND1 (power), 18 PGND1 (power), 19 PGND1 (power), 20 SW1 (out), 21 PVDD1 (power), 22 VDD_D (power), 23 VDD_A (power), 24 NC, 25 PVDD2 (power), 26 SW2 (out), 27 PGND2 (power), 28 PGND2 (power), 29 PGND2 (power), 30 FB2 (in), 31 NC, 32 SCAN, 33 VPWELL (out), 34 NC, 35 VNWELL (out), 36 NC, 37 DAP (power)

## LP5551SQ/NOPB
designator U?
PowerWise Technology Compliant Energy Management Unit, 36-pin LLP, Pb-Free; PartNumber: LP5551SQ/NOPB; Manufacturer: National Semiconductor; PackageTopMarking: NS*UZXYTTE#*LP5551SQ; PowerWise: Y; CompType: MiscPower; Published: 1-Mar-2010; DatasheetVersion: Dec-2006; PackageVersion: revA, Jun-2003; PackageReference: SQA36A; Publisher: Altium Limited; PackageDescription: LLP, Plastic, Quad, 6 x 6 x 0.8mm Body, 36 Lead, 0.5mm Pitch, No Pullback; Supplier 1: Digi-Key; Supplier Part Number 1: LP5551SQTR-ND; Supplier 2: Digi-Key; Supplier Part Number 2: LP5551SQCT-ND; Supplier 3: Digi-Key; Supplier Part Number 3: LP5551SQDKR-ND; RoHS: Y; PinCount: 36; ComponentLink1Description: LP5551 Datasheet; ComponentLink1URL: http://www.national.com/ds/LP/LP5551.pdf; ComponentLink2Description: LP5551 Web Page; ComponentLink2URL: http://www.national.com/pf/LP/LP5551.html; ComponentLink3Description: SQA36A Package Page; ComponentLink3URL: http://www.national.com/packaging/folders/sqa36a.html
footprint SQA36A (QFN, 36-Leads, Body 6x6mm, Pitch 0.5mm, NSC Recommended)
pins: 1 GP3 (out), 2 GP2 (out), 3 GP1 (out), 4 GP0 (out), 5 PWROK (out), 6 RESETN (in), 7 EN (in), 8 SPWI (io), 9 SCLK (in), 10 LDO2 (power), 11 LDO4 (power), 12 LDO1 (power), 13 NC, 14 LDO3 (power), 15 NC, 16 FB1 (in), 17 PGND1 (power), 18 PGND1 (power), 19 PGND1 (power), 20 SW1 (out), 21 PVDD1 (power), 22 VDD_D (power), 23 VDD_A (power), 24 NC, 25 PVDD2 (power), 26 SW2 (out), 27 PGND2 (power), 28 PGND2 (power), 29 PGND2 (power), 30 FB2 (in), 31 NC, 32 SCAN, 33 VPWELL (out), 34 NC, 35 VNWELL (out), 36 NC, 37 DAP (power)

## LP5551SQX
designator U?
PowerWise Technology Compliant Energy Management Unit, 36-pin LLP; PartNumber: LP5551SQX; Manufacturer: National Semiconductor; PackageTopMarking: NS*UZXYTTE#*LP5551SQ; PowerWise: Y; CompType: MiscPower; Published: 1-Mar-2010; DatasheetVersion: Dec-2006; PackageVersion: revA, Jun-2003; PackageReference: SQA36A; Publisher: Altium Limited; PackageDescription: LLP, Plastic, Quad, 6 x 6 x 0.8mm Body, 36 Lead, 0.5mm Pitch, No Pullback; RoHS: N; PinCount: 36; ComponentLink1Description: LP5551 Datasheet; ComponentLink1URL: http://www.national.com/ds/LP/LP5551.pdf; ComponentLink2Description: LP5551 Web Page; ComponentLink2URL: http://www.national.com/pf/LP/LP5551.html; ComponentLink3Description: SQA36A Package Page; ComponentLink3URL: http://www.national.com/packaging/folders/sqa36a.html
footprint SQA36A (QFN, 36-Leads, Body 6x6mm, Pitch 0.5mm, NSC Recommended)
pins: 1 GP3 (out), 2 GP2 (out), 3 GP1 (out), 4 GP0 (out), 5 PWROK (out), 6 RESETN (in), 7 EN (in), 8 SPWI (io), 9 SCLK (in), 10 LDO2 (power), 11 LDO4 (power), 12 LDO1 (power), 13 NC, 14 LDO3 (power), 15 NC, 16 FB1 (in), 17 PGND1 (power), 18 PGND1 (power), 19 PGND1 (power), 20 SW1 (out), 21 PVDD1 (power), 22 VDD_D (power), 23 VDD_A (power), 24 NC, 25 PVDD2 (power), 26 SW2 (out), 27 PGND2 (power), 28 PGND2 (power), 29 PGND2 (power), 30 FB2 (in), 31 NC, 32 SCAN, 33 VPWELL (out), 34 NC, 35 VNWELL (out), 36 NC, 37 DAP (power)

## LP5551SQX/NOPB
designator U?
PowerWise Technology Compliant Energy Management Unit, 36-pin LLP, Pb-Free; PartNumber: LP5551SQX/NOPB; Manufacturer: National Semiconductor; PackageTopMarking: NS*UZXYTTE#*LP5551SQ; PowerWise: Y; CompType: MiscPower; Published: 1-Mar-2010; DatasheetVersion: Dec-2006; PackageVersion: revA, Jun-2003; PackageReference: SQA36A; Publisher: Altium Limited; PackageDescription: LLP, Plastic, Quad, 6 x 6 x 0.8mm Body, 36 Lead, 0.5mm Pitch, No Pullback; Supplier 1: Digi-Key; Supplier Part Number 1: LP5551SQX-ND; RoHS: Y; PinCount: 36; ComponentLink1Description: LP5551 Datasheet; ComponentLink1URL: http://www.national.com/ds/LP/LP5551.pdf; ComponentLink2Description: LP5551 Web Page; ComponentLink2URL: http://www.national.com/pf/LP/LP5551.html; ComponentLink3Description: SQA36A Package Page; ComponentLink3URL: http://www.national.com/packaging/folders/sqa36a.html
footprint SQA36A (QFN, 36-Leads, Body 6x6mm, Pitch 0.5mm, NSC Recommended)
pins: 1 GP3 (out), 2 GP2 (out), 3 GP1 (out), 4 GP0 (out), 5 PWROK (out), 6 RESETN (in), 7 EN (in), 8 SPWI (io), 9 SCLK (in), 10 LDO2 (power), 11 LDO4 (power), 12 LDO1 (power), 13 NC, 14 LDO3 (power), 15 NC, 16 FB1 (in), 17 PGND1 (power), 18 PGND1 (power), 19 PGND1 (power), 20 SW1 (out), 21 PVDD1 (power), 22 VDD_D (power), 23 VDD_A (power), 24 NC, 25 PVDD2 (power), 26 SW2 (out), 27 PGND2 (power), 28 PGND2 (power), 29 PGND2 (power), 30 FB2 (in), 31 NC, 32 SCAN, 33 VPWELL (out), 34 NC, 35 VNWELL (out), 36 NC, 37 DAP (power)

## LP5552TL
designator U?
PWI 2.0 and PowerWise Technology Compliant Energy Management Unit, 36-pin Micro SMD; PartNumber: LP5552TL; Manufacturer: National Semiconductor; PackageTopMarking: XYTT*I SLKB; PowerWise: Y; CompType: MiscPower; Published: 4-Dec-2008; DatasheetVersion: May-2008; PackageVersion: revC, Dec-2003; PackageReference: TLA36TTA; Publisher: Altium Limited; PackageDescription: Thin Micro SMD, 36 Bump (Large), 0.5mm Pitch; RoHS: Y; PinCount: 36; Code_JEDEC: MO-211-DK; ComponentLink1Description: LP5552 Datasheet; ComponentLink1URL: http://www.national.com/ds/LP/LP5552.pdf; ComponentLink2Description: LP5552 Web Page; ComponentLink2URL: http://www.national.com/pf/LP/LP5552.html; ComponentLink3Description: TLA36TTA Package Page; ComponentLink3URL: http://www.national.com/packaging/folders/tla36tta.html
footprint TLA36TTA (Micro SMD, 36-Leads, Body 3.46x3.46mm, Pitch 0.5mm, NSC Recommended)
pins: A1 PVDD2 (power), A2 SW2 (out), A3 PGND2 (power), A4 PGND1 (power), A5 SW1 (out), A6 PVDD1 (power), B1 AVDD2 (power), B2 VFB2 (in), B3 AGND2 (power), B4 AGND1 (power), B5 VFB1 (in), B6 AVDD1 (power), C1 VO4 (power), C2 SA1 (in), C3 RGND (power), C4 GPO0 (out), C5 Reserved (power), C6 VO3 (power), D1 AVDD3 (power), D2 SA2 (in), D3 GPO2 (out), D4 GPO1 (out), D5 ENABLE (in), D6 VO5 (power), E1 VO1 (power), E2 DVDD1 (power), E3 SA3 (in), E4 DGND1 (power), E5 RESETN (in), E6 DVDD2 (power), F1 SPWI (io), F2 SCLK (in), F3 SUB (power), F4 DGND2 (power), F5 PWROK (out), F6 VO2 (power)

## LP5552TL/NOPB
designator U?
PWI 2.0 and PowerWise Technology Compliant Energy Management Unit, 36-pin Micro SMD, Pb-Free; PartNumber: LP5552TL/NOPB; Manufacturer: National Semiconductor; PackageTopMarking: XYTT*I SLKB; PowerWise: Y; CompType: MiscPower; Published: 1-Mar-2010; DatasheetVersion: May-2008; PackageVersion: revC, Dec-2003; PackageReference: TLA36TTA; Publisher: Altium Limited; PackageDescription: Thin Micro SMD, 36 Bump (Large), 0.5mm Pitch; Supplier 1: Digi-Key; Supplier Part Number 1: LP5552TLTR-ND; Supplier 2: Digi-Key; Supplier Part Number 2: LP5552TLCT-ND; Supplier 3: Digi-Key; Supplier Part Number 3: LP5552TLDKR-ND; RoHS: Y; PinCount: 36; Code_JEDEC: MO-211-DK; ComponentLink1Description: LP5552 Datasheet; ComponentLink1URL: http://www.national.com/ds/LP/LP5552.pdf; ComponentLink2Description: LP5552 Web Page; ComponentLink2URL: http://www.national.com/pf/LP/LP5552.html; ComponentLink3Description: TLA36TTA Package Page; ComponentLink3URL: http://www.national.com/packaging/folders/tla36tta.html
footprint TLA36TTA (Micro SMD, 36-Leads, Body 3.46x3.46mm, Pitch 0.5mm, NSC Recommended)
pins: A1 PVDD2 (power), A2 SW2 (out), A3 PGND2 (power), A4 PGND1 (power), A5 SW1 (out), A6 PVDD1 (power), B1 AVDD2 (power), B2 VFB2 (in), B3 AGND2 (power), B4 AGND1 (power), B5 VFB1 (in), B6 AVDD1 (power), C1 VO4 (power), C2 SA1 (in), C3 RGND (power), C4 GPO0 (out), C5 Reserved (power), C6 VO3 (power), D1 AVDD3 (power), D2 SA2 (in), D3 GPO2 (out), D4 GPO1 (out), D5 ENABLE (in), D6 VO5 (power), E1 VO1 (power), E2 DVDD1 (power), E3 SA3 (in), E4 DGND1 (power), E5 RESETN (in), E6 DVDD2 (power), F1 SPWI (io), F2 SCLK (in), F3 SUB (power), F4 DGND2 (power), F5 PWROK (out), F6 VO2 (power)

## LP5552TLX/NOPB
designator U?
PWI 2.0 and PowerWise Technology Compliant Energy Management Unit, 36-pin Micro SMD, Pb-Free; PartNumber: LP5552TLX/NOPB; Manufacturer: National Semiconductor; PackageTopMarking: XYTT*I SLKB; PowerWise: Y; CompType: MiscPower; Published: 1-Mar-2010; DatasheetVersion: May-2008; PackageVersion: revC, Dec-2003; PackageReference: TLA36TTA; Publisher: Altium Limited; PackageDescription: Thin Micro SMD, 36 Bump (Large), 0.5mm Pitch; Supplier 1: Digi-Key; Supplier Part Number 1: LP5552TLX-ND; RoHS: Y; PinCount: 36; Code_JEDEC: MO-211-DK; ComponentLink1Description: LP5552 Datasheet; ComponentLink1URL: http://www.national.com/ds/LP/LP5552.pdf; ComponentLink2Description: LP5552 Web Page; ComponentLink2URL: http://www.national.com/pf/LP/LP5552.html; ComponentLink3Description: TLA36TTA Package Page; ComponentLink3URL: http://www.national.com/packaging/folders/tla36tta.html
footprint TLA36TTA (Micro SMD, 36-Leads, Body 3.46x3.46mm, Pitch 0.5mm, NSC Recommended)
pins: A1 PVDD2 (power), A2 SW2 (out), A3 PGND2 (power), A4 PGND1 (power), A5 SW1 (out), A6 PVDD1 (power), B1 AVDD2 (power), B2 VFB2 (in), B3 AGND2 (power), B4 AGND1 (power), B5 VFB1 (in), B6 AVDD1 (power), C1 VO4 (power), C2 SA1 (in), C3 RGND (power), C4 GPO0 (out), C5 Reserved (power), C6 VO3 (power), D1 AVDD3 (power), D2 SA2 (in), D3 GPO2 (out), D4 GPO1 (out), D5 ENABLE (in), D6 VO5 (power), E1 VO1 (power), E2 DVDD1 (power), E3 SA3 (in), E4 DGND1 (power), E5 RESETN (in), E6 DVDD2 (power), F1 SPWI (io), F2 SCLK (in), F3 SUB (power), F4 DGND2 (power), F5 PWROK (out), F6 VO2 (power)

## LP5553TL
designator U?
PowerWise AVS Energy Management Unit with SPMI, 36-pin Micro SMD; PartNumber: LP5553TL; Manufacturer: National Semiconductor; PackageTopMarking: XYTT*I 5553; PowerWise: Y; CompType: MiscPower; Published: 29-May-2009; DatasheetVersion: Mar-2009; PackageVersion: revC, Dec-2003; PackageReference: TLA36TTA; Publisher: Altium Limited; PackageDescription: Thin Micro SMD, 36 Bump (Large), 0.5mm Pitch; RoHS: Y; PinCount: 36; Code_JEDEC: MO-211-DK; ComponentLink1Description: LP5553 Datasheet; ComponentLink1URL: http://www.national.com/ds/LP/LP5553.pdf; ComponentLink2Description: LP5553 Web Page; ComponentLink2URL: http://www.national.com/pf/LP/LP5553.html; ComponentLink3Description: TLA36TTA Package Page; ComponentLink3URL: http://www.national.com/packaging/folders/tla36tta.html
footprint TLA36TTA (Micro SMD, 36-Leads, Body 3.46x3.46mm, Pitch 0.5mm, NSC Recommended)
pins: A1 PVDD2 (power), A2 SW2 (out), A3 PGND2 (power), A4 PGND1 (power), A5 SW1 (out), A6 PVDD1 (power), B1 AVDD2 (power), B2 VFB2 (in), B3 AGND2 (power), B4 AGND1 (power), B5 VFB1 (in), B6 AVDD1 (power), C1 VO4 (power), C2 SA1 (in), C3 RGND (power), C4 GPO0 (out), C5 Reserved (power), C6 VO3 (power), D1 AVDD3 (power), D2 SA2 (in), D3 GPO2 (out), D4 GPO1 (out), D5 ENABLE (in), D6 VO5 (power), E1 VO1 (power), E2 DVDD1 (power), E3 SA3 (in), E4 DGND1 (power), E5 RESETN (in), E6 DVDD2 (power), F1 SDATA (io), F2 SCLK (in), F3 SUB (power), F4 DGND2 (power), F5 PWROK (out), F6 VO2 (power)

## LP5553TL/NOPB
designator U?
PowerWise AVS Energy Management Unit with SPMI, 36-pin Micro SMD, Pb-Free; PartNumber: LP5553TL/NOPB; Manufacturer: National Semiconductor; PackageTopMarking: XYTT*I 5553; PowerWise: Y; CompType: MiscPower; Published: 1-Mar-2010; DatasheetVersion: Mar-2009; PackageVersion: revC, Dec-2003; PackageReference: TLA36TTA; Publisher: Altium Limited; PackageDescription: Thin Micro SMD, 36 Bump (Large), 0.5mm Pitch; Supplier 1: Digi-Key; Supplier Part Number 1: LP5553TL-ND; RoHS: Y; PinCount: 36; Code_JEDEC: MO-211-DK; ComponentLink1Description: LP5553 Datasheet; ComponentLink1URL: http://www.national.com/ds/LP/LP5553.pdf; ComponentLink2Description: LP5553 Web Page; ComponentLink2URL: http://www.national.com/pf/LP/LP5553.html; ComponentLink3Description: TLA36TTA Package Page; ComponentLink3URL: http://www.national.com/packaging/folders/tla36tta.html
footprint TLA36TTA (Micro SMD, 36-Leads, Body 3.46x3.46mm, Pitch 0.5mm, NSC Recommended)
pins: A1 PVDD2 (power), A2 SW2 (out), A3 PGND2 (power), A4 PGND1 (power), A5 SW1 (out), A6 PVDD1 (power), B1 AVDD2 (power), B2 VFB2 (in), B3 AGND2 (power), B4 AGND1 (power), B5 VFB1 (in), B6 AVDD1 (power), C1 VO4 (power), C2 SA1 (in), C3 RGND (power), C4 GPO0 (out), C5 Reserved (power), C6 VO3 (power), D1 AVDD3 (power), D2 SA2 (in), D3 GPO2 (out), D4 GPO1 (out), D5 ENABLE (in), D6 VO5 (power), E1 VO1 (power), E2 DVDD1 (power), E3 SA3 (in), E4 DGND1 (power), E5 RESETN (in), E6 DVDD2 (power), F1 SDATA (io), F2 SCLK (in), F3 SUB (power), F4 DGND2 (power), F5 PWROK (out), F6 VO2 (power)

## LP5553TLX/NOPB
designator U?
PowerWise AVS Energy Management Unit with SPMI, 36-pin Micro SMD, Pb-Free; PartNumber: LP5553TLX/NOPB; Manufacturer: National Semiconductor; PackageTopMarking: XYTT*I 5553; PowerWise: Y; CompType: MiscPower; Published: 1-Mar-2010; DatasheetVersion: Mar-2009; PackageVersion: revC, Dec-2003; PackageReference: TLA36TTA; Publisher: Altium Limited; PackageDescription: Thin Micro SMD, 36 Bump (Large), 0.5mm Pitch; Supplier 1: Digi-Key; Supplier Part Number 1: LP5553TLX-ND; RoHS: Y; PinCount: 36; Code_JEDEC: MO-211-DK; ComponentLink1Description: LP5553 Datasheet; ComponentLink1URL: http://www.national.com/ds/LP/LP5553.pdf; ComponentLink2Description: LP5553 Web Page; ComponentLink2URL: http://www.national.com/pf/LP/LP5553.html; ComponentLink3Description: TLA36TTA Package Page; ComponentLink3URL: http://www.national.com/packaging/folders/tla36tta.html
footprint TLA36TTA (Micro SMD, 36-Leads, Body 3.46x3.46mm, Pitch 0.5mm, NSC Recommended)
pins: A1 PVDD2 (power), A2 SW2 (out), A3 PGND2 (power), A4 PGND1 (power), A5 SW1 (out), A6 PVDD1 (power), B1 AVDD2 (power), B2 VFB2 (in), B3 AGND2 (power), B4 AGND1 (power), B5 VFB1 (in), B6 AVDD1 (power), C1 VO4 (power), C2 SA1 (in), C3 RGND (power), C4 GPO0 (out), C5 Reserved (power), C6 VO3 (power), D1 AVDD3 (power), D2 SA2 (in), D3 GPO2 (out), D4 GPO1 (out), D5 ENABLE (in), D6 VO5 (power), E1 VO1 (power), E2 DVDD1 (power), E3 SA3 (in), E4 DGND1 (power), E5 RESETN (in), E6 DVDD2 (power), F1 SDATA (io), F2 SCLK (in), F3 SUB (power), F4 DGND2 (power), F5 PWROK (out), F6 VO2 (power)

## LP39542RL
designator U?
Advanced Lighting Management Unit, 36-pin Micro SMDXT; PartNumber: LP39542RL; Manufacturer: National Semiconductor; PackageTopMarking: XYTT*I D60B; PowerWise: N; CompType: MiscPower; Published: 4-Dec-2008; DatasheetVersion: Aug-2007; PackageVersion: Aug-2007; PackageReference: RLA36AAA; Publisher: Altium Limited; PackageDescription: Micro SMDxt, 36 Bump (Large), 0.5mm Pitch; Supplier 1: Farnell; Supplier Part Number 1: 1506814; RoHS: Y; PinCount: 36; ComponentLink1Description: LP39542 Datasheet; ComponentLink1URL: http://www.national.com/ds/LP/LP39542.pdf; ComponentLink2Description: LP39542 Web Page; ComponentLink2URL: http://www.national.com/pf/LP/LP39542.html
footprint RLA36AAA (Micro SMD, 36-Leads, Body 3x3mm, Pitch 0.5mm, NSC Recommended)
pins: A1 VDD2 (power), A2 B2 (out), A3 G2 (out), A4 R2 (out), A5 GND_RGB (power), A6 B1 (out), B1 VDDA (power), B2 GNDT (power), B3 SCL (in), B4 NRST (in), B5 IRGB (in), B6 G1 (out), C1 VREF (out), C2 IRT, C3 FLASH_EN (in), C4 ADDR_SEL (in), C5 SDA (io), C6 R1 (out), D1 GNDA (power), D2 ASE (in), D3 VDD1 (power), D4 SYNC_PWM (in), D5 VDDIO (power), D6 FLASH (out), E1 WLED2 (out), E2 WLED4 (out), E3 WLED6 (out), E4 IFLASH, E5 GND (power), E6 FB (in), F1 WLED1 (out), F2 WLED3 (out), F3 WLED5 (out), F4 GND_WLED (power), F5 GND_SW (power), F6 SW (out)

## LP39542RL/NOPB
designator U?
Advanced Lighting Management Unit, 36-pin Micro SMDXT, Pb-Free; PartNumber: LP39542RL/NOPB; Manufacturer: National Semiconductor; PackageTopMarking: XYTT*I D60B; PowerWise: N; CompType: MiscPower; Published: 1-Mar-2010; DatasheetVersion: Aug-2007; PackageVersion: Aug-2007; PackageReference: RLA36AAA; Publisher: Altium Limited; PackageDescription: Micro SMDxt, 36 Bump (Large), 0.5mm Pitch; Supplier 1: Digi-Key; Supplier Part Number 1: LP39542RL/NOPBTR-ND; Supplier 2: Digi-Key; Supplier Part Number 2: LP39542RL/NOPBCT-ND; Supplier 3: Digi-Key; Supplier Part Number 3: LP39542RL/NOPBDKR-ND; RoHS: Y; PinCount: 36; ComponentLink1Description: LP39542 Datasheet; ComponentLink1URL: http://www.national.com/ds/LP/LP39542.pdf; ComponentLink2Description: LP39542 Web Page; ComponentLink2URL: http://www.national.com/pf/LP/LP39542.html; ComponentLink3Description: RLA36AAA Package Page; ComponentLink3URL: http://www.national.com/packaging/folders/rla36aaa.html
footprint RLA36AAA (Micro SMD, 36-Leads, Body 3x3mm, Pitch 0.5mm, NSC Recommended)
pins: A1 VDD2 (power), A2 B2 (out), A3 G2 (out), A4 R2 (out), A5 GND_RGB (power), A6 B1 (out), B1 VDDA (power), B2 GNDT (power), B3 SCL (in), B4 NRST (in), B5 IRGB (in), B6 G1 (out), C1 VREF (out), C2 IRT, C3 FLASH_EN (in), C4 ADDR_SEL (in), C5 SDA (io), C6 R1 (out), D1 GNDA (power), D2 ASE (in), D3 VDD1 (power), D4 SYNC_PWM (in), D5 VDDIO (power), D6 FLASH (out), E1 WLED2 (out), E2 WLED4 (out), E3 WLED6 (out), E4 IFLASH, E5 GND (power), E6 FB (in), F1 WLED1 (out), F2 WLED3 (out), F3 WLED5 (out), F4 GND_WLED (power), F5 GND_SW (power), F6 SW (out)

## LP39542RLX/NOPB
designator U?
Advanced Lighting Management Unit, 36-pin Micro SMDXT, Pb-Free; PartNumber: LP39542RLX/NOPB; Manufacturer: National Semiconductor; PackageTopMarking: XYTT*I D60B; PowerWise: N; CompType: MiscPower; Published: 1-Mar-2010; DatasheetVersion: Aug-2007; PackageVersion: Aug-2007; PackageReference: RLA36AAA; Publisher: Altium Limited; PackageDescription: Micro SMDxt, 36 Bump (Large), 0.5mm Pitch; Supplier 1: Digi-Key; Supplier Part Number 1: LP39542RLX-ND; RoHS: Y; PinCount: 36; ComponentLink1Description: LP39542 Datasheet; ComponentLink1URL: http://www.national.com/ds/LP/LP39542.pdf; ComponentLink2Description: LP39542 Web Page; ComponentLink2URL: http://www.national.com/pf/LP/LP39542.html; ComponentLink3Description: RLA36AAA Package Page; ComponentLink3URL: http://www.national.com/packaging/folders/rla36aaa.html
footprint RLA36AAA (Micro SMD, 36-Leads, Body 3x3mm, Pitch 0.5mm, NSC Recommended)
pins: A1 VDD2 (power), A2 B2 (out), A3 G2 (out), A4 R2 (out), A5 GND_RGB (power), A6 B1 (out), B1 VDDA (power), B2 GNDT (power), B3 SCL (in), B4 NRST (in), B5 IRGB (in), B6 G1 (out), C1 VREF (out), C2 IRT, C3 FLASH_EN (in), C4 ADDR_SEL (in), C5 SDA (io), C6 R1 (out), D1 GNDA (power), D2 ASE (in), D3 VDD1 (power), D4 SYNC_PWM (in), D5 VDDIO (power), D6 FLASH (out), E1 WLED2 (out), E2 WLED4 (out), E3 WLED6 (out), E4 IFLASH, E5 GND (power), E6 FB (in), F1 WLED1 (out), F2 WLED3 (out), F3 WLED5 (out), F4 GND_WLED (power), F5 GND_SW (power), F6 SW (out)

## LP39542TL
designator U?
Advanced Lighting Management Unit, 36-pin Micro SMD; PartNumber: LP39542TL; Manufacturer: National Semiconductor; PackageTopMarking: XYTT*I D58B; PowerWise: Y; CompType: MiscPower; Published: 4-Dec-2008; DatasheetVersion: Aug-2007; PackageVersion: revC, Dec-2003; PackageReference: TLA36AAA; Publisher: Altium Limited; PackageDescription: Thin Micro SMD, 36 Bump (Large), 0.5mm Pitch; RoHS: Y; PinCount: 36; Code_JEDEC: MO-211-DK; ComponentLink1Description: LP39542 Datasheet; ComponentLink1URL: http://www.national.com/ds/LP/LP39542.pdf; ComponentLink2Description: LP39542 Web Page; ComponentLink2URL: http://www.national.com/pf/LP/LP39542.html; ComponentLink3Description: TLA36AAA Package Page; ComponentLink3URL: http://www.national.com/packaging/folders/tla36aaa.html
footprint TLA36AAA (Micro SMD, 36-Leads, Body 3x3mm, Pitch 0.5mm, NSC Recommended)
pins: A1 VDD2 (power), A2 B2 (out), A3 G2 (out), A4 R2 (out), A5 GND_RGB (power), A6 B1 (out), B1 VDDA (power), B2 GNDT (power), B3 SCL (in), B4 NRST (in), B5 IRGB (in), B6 G1 (out), C1 VREF (out), C2 IRT, C3 FLASH_EN (in), C4 ADDR_SEL (in), C5 SDA (io), C6 R1 (out), D1 GNDA (power), D2 ASE (in), D3 VDD1 (power), D4 SYNC_PWM (in), D5 VDDIO (power), D6 FLASH (out), E1 WLED2 (out), E2 WLED4 (out), E3 WLED6 (out), E4 IFLASH, E5 GND (power), E6 FB (in), F1 WLED1 (out), F2 WLED3 (out), F3 WLED5 (out), F4 GND_WLED (power), F5 GND_SW (power), F6 SW (out)